# EAGLE library part HEADER2X6-SHRD-SMT (library dp_devices)
6x2 SMT Shrouded pin header, pitch 0.100 [2.54]
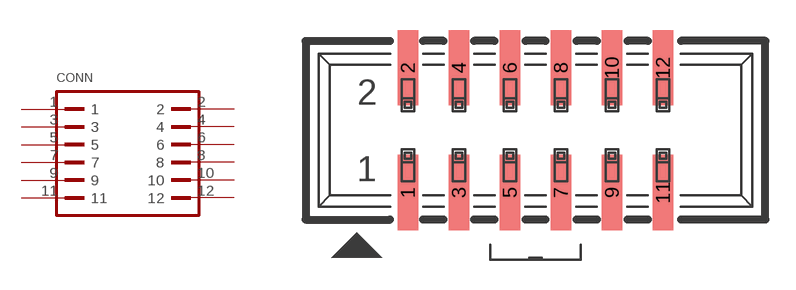
[diagram p28: symbol with the pads of PINSHRD_SMT_2X06; footprint PINSHRD_SMT_2X06]

Designator prefix CONN

## HEADER2X6-SHRD-SMT  [PINSHRD_SMT_2X06]
1  1  pas
2  2  pas
3  3  pas
4  4  pas
5  5  pas
6  6  pas
7  7  pas
8  8  pas
9  9  pas
10  10  pas
11  11  pas
12  12  pas

## Footprint PINSHRD_SMT_2X06 (pad centres in mm)
pitch = 0.100 [2.54], 2x5 source: http://www.mlelectronic.com/shrouded-headers/shrouded-headers-100.asp
smd 1.02 x 3.75: 1 -6.35,-3.107; 2 -6.35,3.107; 3 -3.81,-3.107; 4 -3.81,3.107; 5 -1.27,-3.107; 6 -1.27,3.107; 7 1.27,-3.107; 8 1.27,3.107; 9 3.81,-3.107; 10 3.81,3.107; 11 6.35,-3.107; 12 6.35,3.107